# EAGLE library part L6470 (library heck)
3A RMS/7A peak bipolar stepper motor driver with SPI control and step input in HTSSOP-28 package. IC-10648
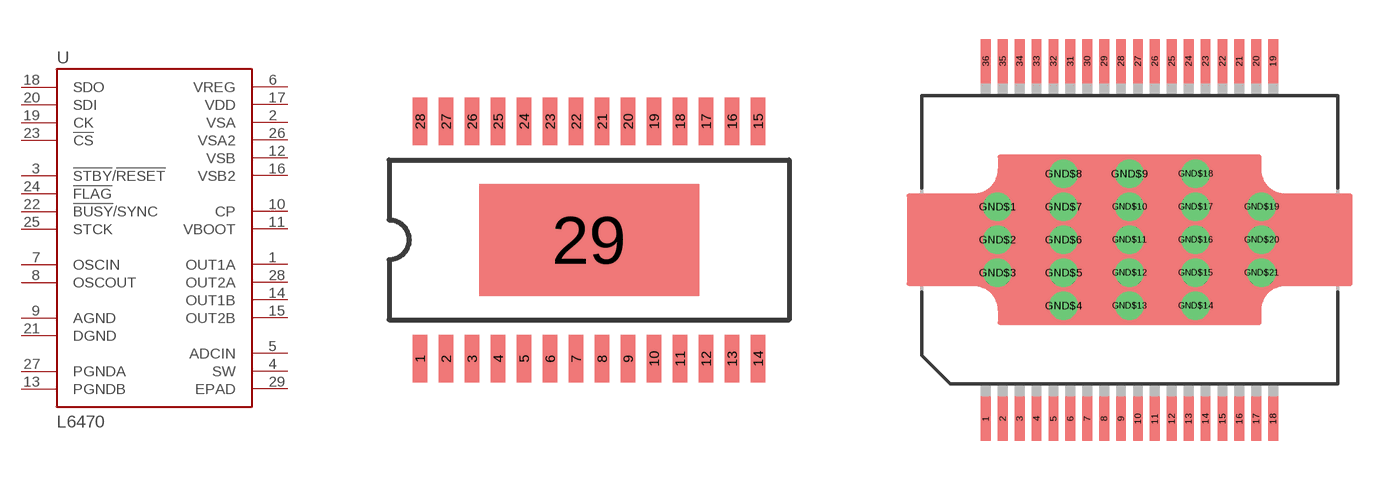
[diagram p16: symbol with the pads of HTSSOP28; footprints HTSSOP28, POWERSO36]

Designator prefix U

## L6470H (PROD_ID: IC-10648)  [HTSSOP28]
1  OUT1A
2  VSA
3  !STBY!/!RESET!
4  SW
5  ADCIN
6  VREG
7  OSCIN
8  OSCOUT
9  AGND
10  CP
11  VBOOT
12  VSB
13  PGNDB
14  OUT1B
15  OUT2B
16  VSB2
17  VDD
18  SDO
19  CK
20  SDI
21  DGND
22  !BUSY!/SYNC
23  !CS
24  !FLAG
25  STCK
26  VSA2
27  PGNDA
28  OUT2A
29  EPAD

## L6470PD  [POWERSO36]
1  PGNDA
2  OUT1A
3  OUT1A
4  VSA
5  VSA
6  !STBY!/!RESET!
7  SW
8  ADCIN
9  VREG
10  OSCIN
11  OSCOUT
12  AGND
13  CP
14  VBOOT
15  VSB
16  VSB
17  OUT1B
18  OUT1B
19  PGNDB
20  OUT2B
21  OUT2B
22  VSB2
23  VSB2
24  VDD
25  SDO
26  CK
27  SDI
28  DGND
29  !BUSY!/SYNC
30  !CS
31  !FLAG
32  STCK
33  VSA2
34  VSA2
35  OUT2A
36  OUT2A
GND$1  EPAD
GND$2  EPAD
GND$3  EPAD
GND$4  EPAD
GND$5  EPAD
GND$6  EPAD
GND$7  EPAD
GND$8  EPAD
GND$9  EPAD
GND$10  EPAD
GND$11  EPAD
GND$12  EPAD
GND$13  EPAD
GND$14  EPAD
GND$15  EPAD
GND$16  EPAD
GND$17  EPAD
GND$18  EPAD
GND$19  EPAD
GND$20  EPAD
GND$21  EPAD

## Footprint HTSSOP28 (pad centres in mm)
smd 0.36 x 1.19: 1 -4.225,-2.97; 2 -3.575,-2.97; 3 -2.925,-2.97; 4 -2.275,-2.97; 5 -1.625,-2.97; 6 -0.975,-2.97; 7 -0.325,-2.97; 8 0.325,-2.97; 9 0.975,-2.97; 10 1.625,-2.97; 11 2.275,-2.97; 12 2.925,-2.97; 13 3.575,-2.97; 14 4.225,-2.97; 15 4.225,2.97; 16 3.575,2.97; 17 2.925,2.97; 18 2.275,2.97; 19 1.625,2.97; 20 0.975,2.97; 21 0.325,2.97; 22 -0.325,2.97; 23 -0.975,2.97; 24 -1.625,2.97; 25 -2.275,2.97; 26 -2.925,2.97; 27 -3.575,2.97; 28 -4.225,2.97
smd 5.5 x 2.8: 29 0,0

## Footprint POWERSO36 (pad centres in mm)
smd 0.38 x 1.7: 1 -5.525,-6.883; 2 -4.875,-6.883; 3 -4.225,-6.883; 4 -3.575,-6.883; 5 -2.925,-6.883; 6 -2.275,-6.883; 7 -1.625,-6.883; 8 -0.975,-6.883; 9 -0.325,-6.883; 10 0.325,-6.883; 11 0.975,-6.883; 12 1.625,-6.883; 13 2.275,-6.883; 14 2.925,-6.883; 15 3.575,-6.883; 16 4.225,-6.883; 17 4.875,-6.883; 18 5.525,-6.883; 19 5.525,6.883; 20 4.875,6.883; 21 4.225,6.883; 22 3.575,6.883; 23 2.925,6.883; 24 2.275,6.883; 25 1.625,6.883; 26 0.975,6.883; 27 0.325,6.883; 28 -0.325,6.883; 29 -0.975,6.883; 30 -1.625,6.883; 31 -2.275,6.883; 32 -2.925,6.883; 33 -3.575,6.883; 34 -4.225,6.883; 35 -4.875,6.883; 36 -5.525,6.883
drill 0.6: GND$1 -5.08,1.27; GND$2 -5.08,0; GND$3 -5.08,-1.27; GND$4 -2.54,-2.54; GND$5 -2.54,-1.27; GND$6 -2.54,0; GND$7 -2.54,1.27; GND$8 -2.54,2.54; GND$9 0,2.54; GND$10 0,1.27; GND$11 0,0; GND$12 0,-1.27; GND$13 0,-2.54; GND$14 2.54,-2.54; GND$15 2.54,-1.27; GND$16 2.54,0; GND$17 2.54,1.27; GND$18 2.54,2.54; GND$19 5.08,1.27; GND$20 5.08,0; GND$21 5.08,-1.27